# EAGLE library part SCHRAUBKLEMME (library Schraubklemme)
MKDSD 1,5/10-3,81 Printklemme Nennstrom: 8 A Bemessungsspannung: 200 V Raster: 3,81 mm Polzahl: 12 Montageart: Löten Anschlussart: Schraubanschluss Anschlussrichtung vom Leiter zur Platine: 0° Source: http://eshop.phoenixcontact.com .. 1705605.pdf
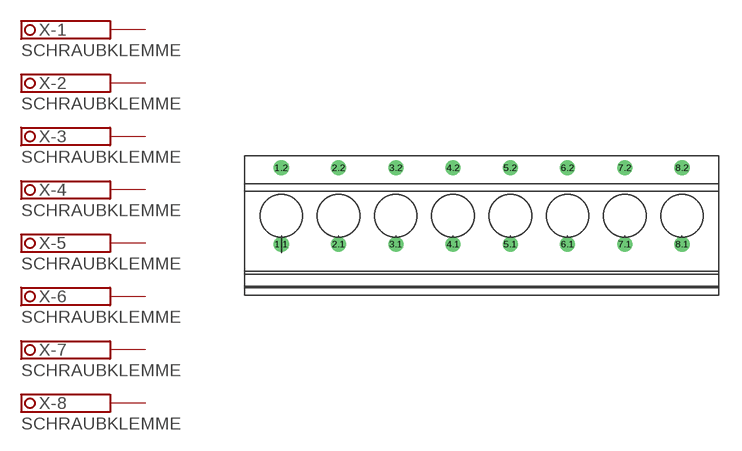
[diagram p0: symbol with the pads of 1705605; footprint 1705605]

Designator prefix X; gates -1=SCHRAUBKLEMME_2 -2=SCHRAUBKLEMME_2 -3=SCHRAUBKLEMME_2 -4=SCHRAUBKLEMME_2 -5=SCHRAUBKLEMME_2 -6=SCHRAUBKLEMME_2 -7=SCHRAUBKLEMME_2 -8=SCHRAUBKLEMME_2

## SCHRAUBKLEMME (AVAILABILITY: Unavailable; DESCRIPTION: Conn Terminal Block 8 POS 3.81mm Screw ST Thru-Hole 8A; MF: Phoenix Contact; MP: 1705605; PACKAGE: None; PRICE: None)  [1705605]
1.1  -1:1A  pas
1.2  -1:1B  pas
2.1  -2:1A  pas
2.2  -2:1B  pas
3.1  -3:1A  pas
3.2  -3:1B  pas
4.1  -4:1A  pas
4.2  -4:1B  pas
5.1  -5:1A  pas
5.2  -5:1B  pas
6.1  -6:1A  pas
6.2  -6:1B  pas
7.1  -7:1A  pas
7.2  -7:1B  pas
8.1  -8:1A  pas
8.2  -8:1B  pas

## Footprint 1705605 (pad centres in mm)
MKDSD 1,5/ 8-3,81 Printklemme Nennstrom: 8 A Bemessungsspannung: 200 V Raster: 3,81 mm Polzahl: 8 Montageart: Löten Anschlussart: Schraubanschluss Anschlussrichtung vom Leiter zur Platine: 0° Source: http://eshop.phoenixcontact.com .. 1705605.pdf
drill 0.5 pad 0.9: 1.1 -13.335,-1.25; 1.2 -13.335,3.83; 2.1 -9.525,-1.25; 2.2 -9.525,3.83; 3.1 -5.715,-1.25; 3.2 -5.715,3.83; 4.1 -1.905,-1.25; 4.2 -1.905,3.83; 5.1 1.905,-1.25; 5.2 1.905,3.83; 6.1 5.715,-1.25; 6.2 5.715,3.83; 7.1 9.525,-1.25; 7.2 9.525,3.83; 8.1 13.335,-1.25; 8.2 13.335,3.83